# Altium footprint library B01FA08B.PcbLib: 1 footprints
Each footprint in its own frame and in the unit in brackets; x right, y up, seen from the top. Pads: shape width x height; smd on the part's side, far side on the other; paste and mask are expansions set on the pad; w line width, h text height; cw(c..) or ccw(c..) is an arc to the next point about the centre after c.
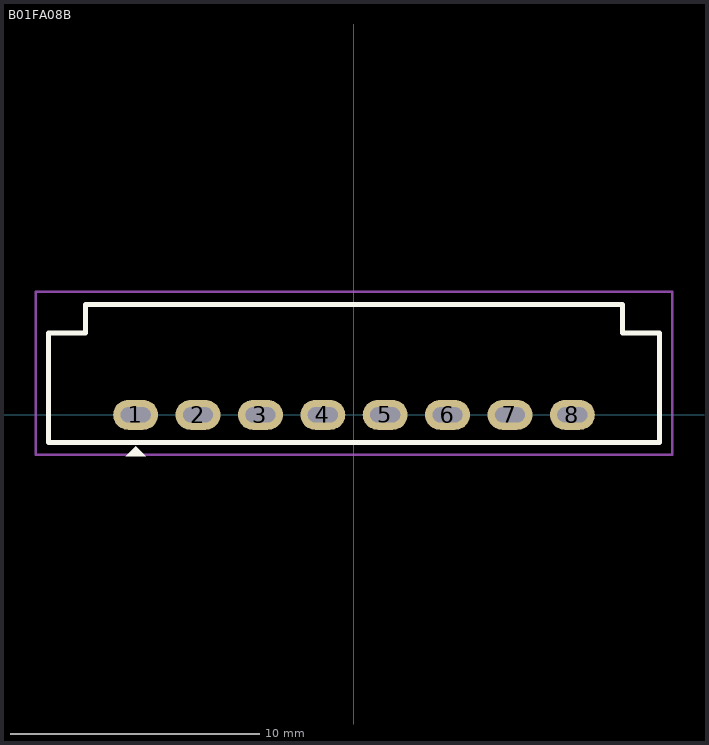
[diagram p0: the footprint, top view; thin cyan lines are the x and y axes]

## B01FA08B [mm]
pads (8):
  oval 1.8x1.2 hole 0.6 slot 1.2 at 0 deg: 1(-8.75,0) 2(-6.25,0) 3(-3.75,0) 4(-1.25,0) 5(1.25,0) 6(3.75,0) 7(6.25,0) 8(8.75,0)
Top Overlay:
  region: -8.35,-1.65 -9.15,-1.65 -8.75,-1.25
  lines w0.2: -12.25,-1.1 12.25,-1.1 12.25,3.275 10.75,3.275 10.75,4.425 -10.75,4.425 -10.75,3.275 -12.25,3.275 -12.25,-1.1
Top Courtyard:
  lines w0.1: -12.75,-1.6 -12.75,4.925 12.75,4.925 12.75,-1.6 -12.75,-1.6
3D body "DS-B01FA08B-S02A.stp": height 6.55, standoff -2.95, extent -12.25,-1.1 12.25,4.42